# Altium footprint library LQFP50P900X900X160-49N.PcbLib: 1 footprints
Each footprint in its own frame and in the unit in brackets; x right, y up, seen from the top. Pads: shape width x height; smd on the part's side, far side on the other; paste and mask are expansions set on the pad; w line width, h text height; cw(c..) or ccw(c..) is an arc to the next point about the centre after c.
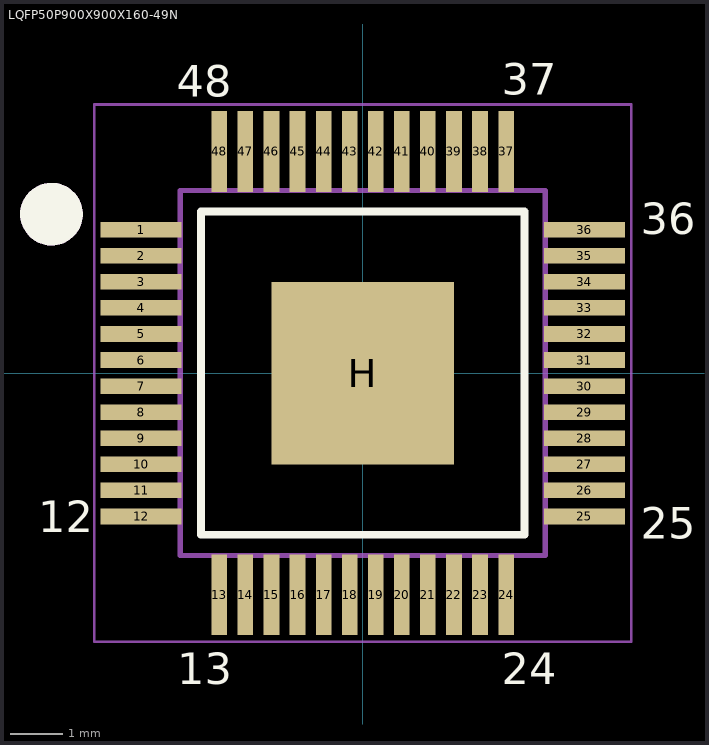
[diagram p0: the footprint, top view; thin cyan lines are the x and y axes]

## LQFP50P900X900X160-49N [mm] "TSQFP, 48-Leads, Body 7.00x7.00mm, Pitch 0.50mm, IPC Medium Density"
height 1.6
pads (49):
  rect 1.55x0.3 smd mask+0.05: 1(-4.25,2.75) 2(-4.25,2.25) 3(-4.25,1.75) 4(-4.25,1.25) 5(-4.25,0.75) 6(-4.25,0.25) 7(-4.25,-0.25) 8(-4.25,-0.75) 9(-4.25,-1.25) 10(-4.25,-1.75) 11(-4.25,-2.25) 12(-4.25,-2.75) 25(4.25,-2.75) 26(4.25,-2.25) 27(4.25,-1.75) 28(4.25,-1.25) 29(4.25,-0.75) 30(4.25,-0.25) 31(4.25,0.25) 32(4.25,0.75) 33(4.25,1.25) 34(4.25,1.75) 35(4.25,2.25) 36(4.25,2.75)
  rect 0.3x1.55 smd mask+0.05: 13(-2.75,-4.25) 14(-2.25,-4.25) 15(-1.75,-4.25) 16(-1.25,-4.25) 17(-0.75,-4.25) 18(-0.25,-4.25) 19(0.25,-4.25) 20(0.75,-4.25) 21(1.25,-4.25) 22(1.75,-4.25) 23(2.25,-4.25) 24(2.75,-4.25) 37(2.75,4.25) 38(2.25,4.25) 39(1.75,4.25) 40(1.25,4.25) 41(0.75,4.25) 42(0.25,4.25) 43(-0.25,4.25) 44(-0.75,4.25) 45(-1.25,4.25) 46(-1.75,4.25) 47(-2.25,4.25) 48(-2.75,4.25)
  rect 3.5x3.5 smd paste-5 mask+0.05: H(0,0)
Top Overlay:
  circle w0.6: c-5.969,3.048 r0.3
  lines w0.152: -3.1,-3.1 -3.1,3.1 3.1,3.1 3.1,-3.1 -3.1,-3.1
  text "48" at -3.566,5.298 h0.6
  text "37" at 2.667,5.334 h0.6
  text "36" at 5.334,2.667 h0.6
  text "25" at 5.334,-3.175 h0.6
  text "24" at 2.667,-5.969 h0.6
  text "13" at -3.556,-5.969 h0.6
  text "12" at -6.223,-3.048 h0.6
Top Paste:
  region: 0.15,0.15 1.5,0.15 1.5,1.5 0.15,1.5
  region: -1.5,0.15 -0.15,0.15 -0.15,1.5 -1.5,1.5
  region: -1.5,-1.5 -0.15,-1.5 -0.15,-0.15 -1.5,-0.15
  region: 0.15,-1.5 1.5,-1.5 1.5,-0.15 0.15,-0.15
Mechanical 13:
  circle w0.6: c-5.969,3.048 r0.3
  lines w0.1: -3.5,-3.5 -3.5,3.5 3.5,3.5 3.5,-3.5 -3.5,-3.5
  text "48" at -3.556,5.334 h0.6
  text "37" at 2.667,5.334 h0.6
  text "36" at 5.334,2.667 h0.6
  text "25" at 5.334,-3.175 h0.6
  text "24" at 2.667,-5.969 h0.6
  text "13" at -3.556,-5.969 h0.6
  text "12" at -6.223,-3.048 h0.6
Mechanical 15:
  lines w0.05: -5.15,-5.15 -5.15,5.15 5.15,5.15 5.15,-5.15 -5.15,-5.15
  lines w0.1: -0.5,0 0.5,0 ; 0,-0.5 0,0.5
3D body "LQFP50P900X900X160-49N.step": height 1.6, standoff 0, extent -4.66,-4.66 4.66,4.66